# Altium footprint library UUD1c221MCL1GS.PcbLib: 1 footprints
Each footprint in its own frame and in the unit in brackets; x right, y up, seen from the top. Pads: shape width x height; smd on the part's side, far side on the other; paste and mask are expansions set on the pad; w line width, h text height; cw(c..) or ccw(c..) is an arc to the next point about the centre after c.
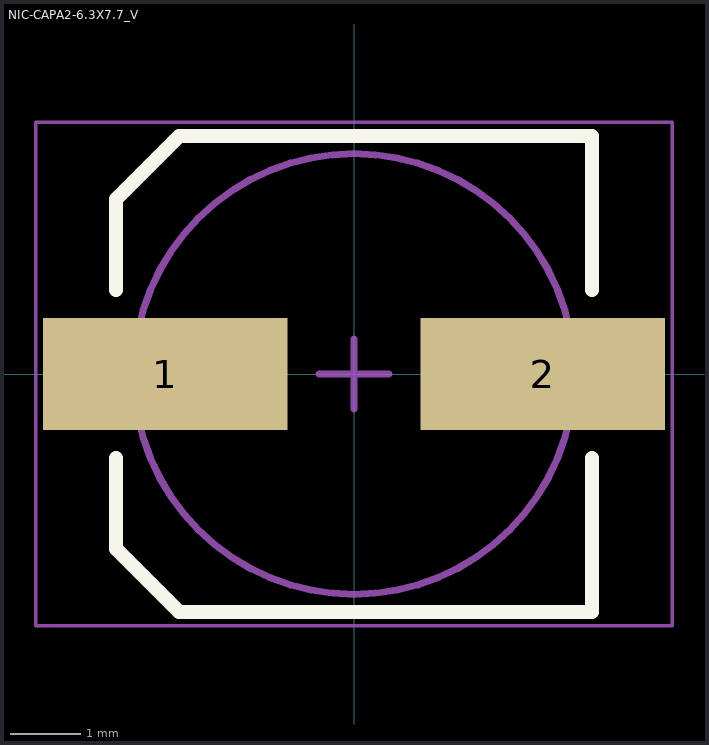
[diagram p0: the footprint, top view; thin cyan lines are the x and y axes]

## NIC-CAPA2-6.3X7.7_V [mm] "Aluminum Electrolytic Capacitor, Diameter 6.3mm, Height 8mm, Pitch 5.4mm"
height 8
pads (2):
  rect 3.5x1.6 smd: 1(-2.7,0) 2(2.7,0)
Top Overlay:
  lines w0.2: -3.4,-1.2 -3.4,-2.5 -2.5,-3.4 3.4,-3.4 3.4,-1.2 ; -3.4,1.2 -3.4,2.5 -2.5,3.4 3.4,3.4 3.4,1.2
Mechanical 13:
  circle w0.1: c0,0 r3.15
Mechanical 15:
  lines w0.05: -4.55,-3.6 -4.55,3.6 4.55,3.6 4.55,-3.6 -4.55,-3.6
  lines w0.1: -0.5,0 0.5,0 ; 0,-0.5 0,0.5
3D body: height 8, standoff 0, extent -3.144,-3.125 3.144,3.15